# Altium footprint library X2SON_DQN.PcbLib: 1 footprints
Each footprint in its own frame and in the unit in brackets; x right, y up, seen from the top. Pads: shape width x height; smd on the part's side, far side on the other; paste and mask are expansions set on the pad; w line width, h text height; cw(c..) or ccw(c..) is an arc to the next point about the centre after c.
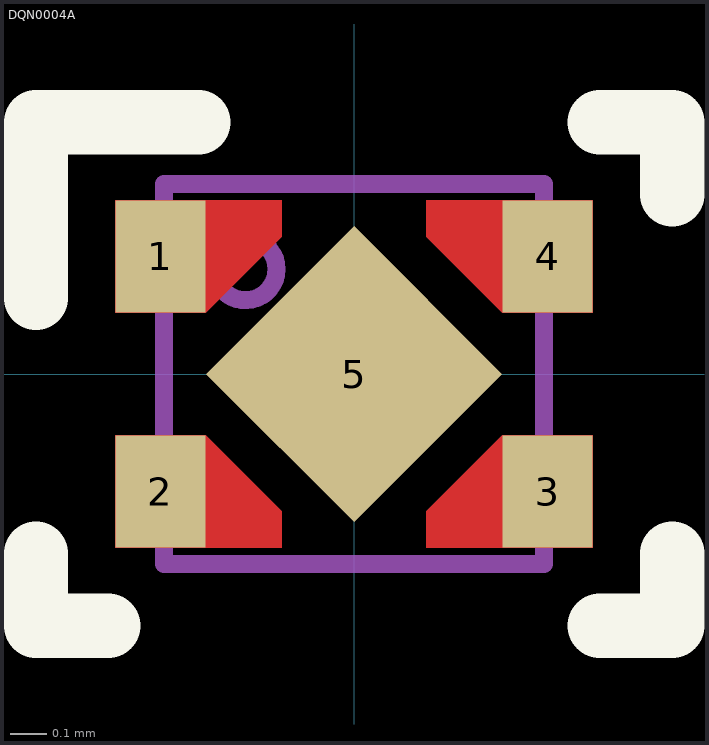
[diagram p0: the footprint, top view; thin cyan lines are the x and y axes]

## DQN0004A [mm]
pads (5):
  rect 0.25x0.31 smd paste-0.142 mask-0.14: 1(-0.535,0.325) 2(-0.535,-0.325) 3(0.535,-0.325) 4(0.535,0.325)
  rect 0.58x0.58 smd rot 45 paste-0.065 mask-0.051: 5(0,0)
Top Layer:
  region: -0.66,0.17 -0.66,0.48 -0.2,0.48 -0.2,0.379 -0.409,0.17
  region: 0.66,0.17 0.66,0.48 0.2,0.48 0.2,0.379 0.409,0.17
  region: 0.66,-0.17 0.66,-0.48 0.2,-0.48 0.2,-0.379 0.409,-0.17
  region: -0.66,-0.17 -0.66,-0.48 -0.2,-0.48 -0.2,-0.379 -0.409,-0.17
Top Overlay:
  lines w0.178: -0.88,-0.496 -0.88,-0.696 -0.68,-0.696 ; -0.88,0.21 -0.88,0.696 -0.43,0.696 ; 0.68,-0.696 0.88,-0.696 0.88,-0.496 ; 0.68,0.696 0.88,0.696 0.88,0.496
Top Paste:
  region: -0.65,-0.22 -0.65,-0.43 -0.25,-0.43 -0.25,-0.4 -0.43,-0.22
  region: 0.65,-0.22 0.65,-0.43 0.25,-0.43 0.25,-0.4 0.43,-0.22
  region: 0.65,0.22 0.65,0.43 0.25,0.43 0.25,0.4 0.43,0.22
  region: -0.65,0.22 -0.65,0.43 -0.25,0.43 -0.25,0.4 -0.43,0.22
Top Solder:
  region: -0.61,0.22 -0.61,0.43 -0.25,0.43 -0.25,0.4 -0.43,0.22
  region: 0.25,0.43 0.61,0.43 0.61,0.22 0.43,0.22 0.25,0.4
  region: 0.61,-0.22 0.61,-0.43 0.25,-0.43 0.25,-0.4 0.43,-0.22
  region: -0.25,-0.43 -0.61,-0.43 -0.61,-0.22 -0.43,-0.22 -0.25,-0.4
Mechanical 13:
  circle w0.05: c-0.3,0.29 r0.086
  lines w0.05: -0.525,-0.525 -0.525,0.525 0.525,0.525 0.525,-0.525 -0.525,-0.525
  text ".Designator" at -0.43,-0.775 h1.27
3D body "X2SON_DQN4A.stp": height 0.29, standoff -0.07, extent -0.5,-0.5 0.5,0.5